# Altium footprint library QFP40P1600X1600X120-129N.PcbLib: 1 footprints
Each footprint in its own frame and in the unit in brackets; x right, y up, seen from the top. Pads: shape width x height; smd on the part's side, far side on the other; paste and mask are expansions set on the pad; w line width, h text height; cw(c..) or ccw(c..) is an arc to the next point about the centre after c.
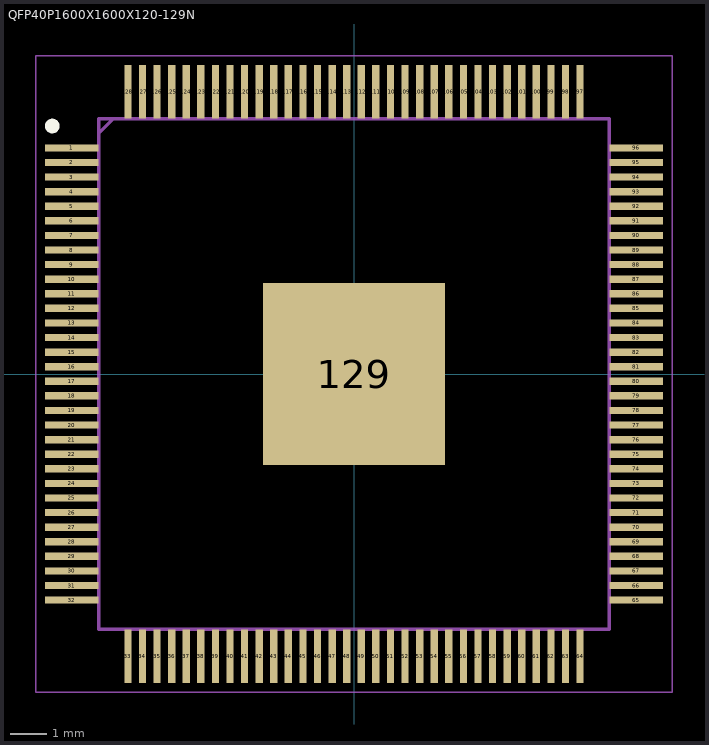
[diagram p0: the footprint, top view; thin cyan lines are the x and y axes]

## QFP40P1600X1600X120-129N [mm]
pads (129):
  rect 1.475x0.2 smd: 1(-7.738,6.2) 2(-7.738,5.8) 3(-7.738,5.4) 4(-7.738,5) 5(-7.738,4.6) 6(-7.738,4.2) 7(-7.738,3.8) 8(-7.738,3.4) 9(-7.738,3) 10(-7.738,2.6) 11(-7.738,2.2) 12(-7.738,1.8) 13(-7.738,1.4) 14(-7.738,1) 15(-7.738,0.6) 16(-7.738,0.2) 17(-7.738,-0.2) 18(-7.738,-0.6) 19(-7.738,-1) 20(-7.738,-1.4) 21(-7.738,-1.8) 22(-7.738,-2.2) 23(-7.738,-2.6) 24(-7.738,-3) 25(-7.738,-3.4) 26(-7.738,-3.8) 27(-7.738,-4.2) 28(-7.738,-4.6) 29(-7.738,-5) 30(-7.738,-5.4) 31(-7.738,-5.8) 32(-7.738,-6.2) 65(7.738,-6.2) 66(7.738,-5.8) 67(7.738,-5.4) 68(7.738,-5) 69(7.738,-4.6) 70(7.738,-4.2) 71(7.738,-3.8) 72(7.738,-3.4) 73(7.738,-3) 74(7.738,-2.6) 75(7.738,-2.2) 76(7.738,-1.8) 77(7.738,-1.4) 78(7.738,-1) 79(7.738,-0.6) 80(7.738,-0.2) 81(7.738,0.2) 82(7.738,0.6) 83(7.738,1) 84(7.738,1.4) 85(7.738,1.8) 86(7.738,2.2) 87(7.738,2.6) 88(7.738,3) 89(7.738,3.4) 90(7.738,3.8) 91(7.738,4.2) 92(7.738,4.6) 93(7.738,5) 94(7.738,5.4) 95(7.738,5.8) 96(7.738,6.2)
  rect 0.2x1.475 smd: 33(-6.2,-7.738) 34(-5.8,-7.738) 35(-5.4,-7.738) 36(-5,-7.738) 37(-4.6,-7.738) 38(-4.2,-7.738) 39(-3.8,-7.738) 40(-3.4,-7.738) 41(-3,-7.738) 42(-2.6,-7.738) 43(-2.2,-7.738) 44(-1.8,-7.738) 45(-1.4,-7.738) 46(-1,-7.738) 47(-0.6,-7.738) 48(-0.2,-7.738) 49(0.2,-7.738) 50(0.6,-7.738) 51(1,-7.738) 52(1.4,-7.738) 53(1.8,-7.738) 54(2.2,-7.738) 55(2.6,-7.738) 56(3,-7.738) 57(3.4,-7.738) 58(3.8,-7.738) 59(4.2,-7.738) 60(4.6,-7.738) 61(5,-7.738) 62(5.4,-7.738) 63(5.8,-7.738) 64(6.2,-7.738) 97(6.2,7.738) 98(5.8,7.738) 99(5.4,7.738) 100(5,7.738) 101(4.6,7.738) 102(4.2,7.738) 103(3.8,7.738) 104(3.4,7.738) 105(3,7.738) 106(2.6,7.738) 107(2.2,7.738) 108(1.8,7.738) 109(1.4,7.738) 110(1,7.738) 111(0.6,7.738) 112(0.2,7.738) 113(-0.2,7.738) 114(-0.6,7.738) 115(-1,7.738) 116(-1.4,7.738) 117(-1.8,7.738) 118(-2.2,7.738) 119(-2.6,7.738) 120(-3,7.738) 121(-3.4,7.738) 122(-3.8,7.738) 123(-4.2,7.738) 124(-4.6,7.738) 125(-5,7.738) 126(-5.4,7.738) 127(-5.8,7.738) 128(-6.2,7.738)
  rect 5x5 smd: 129(0,0)
Top Overlay:
  circle w0.2: c-8.275,6.8 r0.1
Mechanical 15:
  lines w0.1: -7,6.6 -6.6,7 ; -7,-7 7,-7 7,7 -7,7 -7,-7
Mechanical 20:
  lines w0.05: -8.725,-8.725 8.725,-8.725 8.725,8.725 -8.725,8.725 -8.725,-8.725